# Altium footprint library DS1040-05RN.PcbLib: 1 footprints
Each footprint in its own frame and in the unit in brackets; x right, y up, seen from the top. Pads: shape width x height; smd on the part's side, far side on the other; paste and mask are expansions set on the pad; w line width, h text height; cw(c..) or ccw(c..) is an arc to the next point about the centre after c.
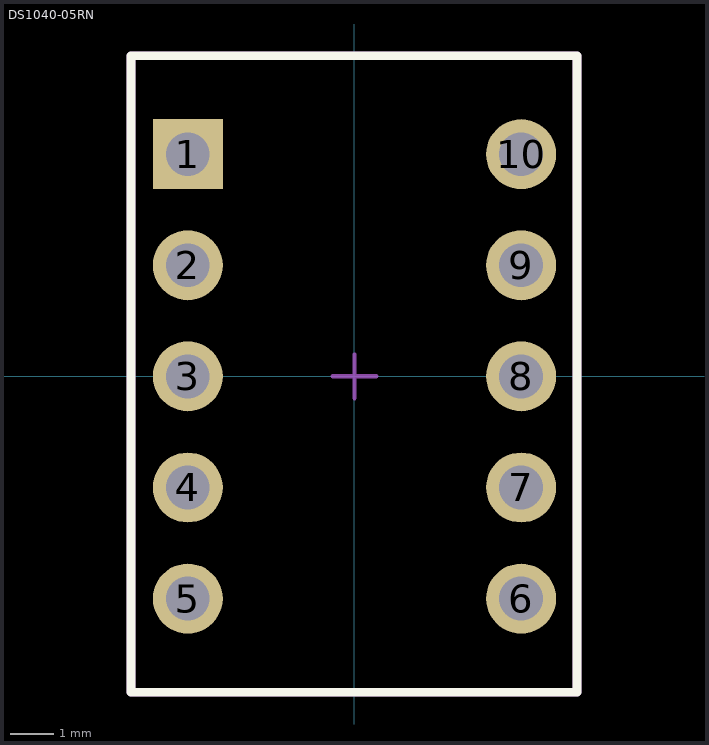
[diagram p0: the footprint, top view; thin cyan lines are the x and y axes]

## DS1040-05RN [mm]
pads (10):
  rect 1.6x1.6 hole 1: 1(-3.81,5.08)
  round 1.6 hole 1: 2(-3.81,2.54) 3(-3.81,0) 4(-3.81,-2.54) 5(-3.81,-5.08) 6(3.81,-5.08) 7(3.81,-2.54) 8(3.81,0) 9(3.81,2.54) 10(3.81,5.08)
Top Overlay:
  lines w0.2: -5.11,-7.22 5.09,-7.22 5.09,7.33 -5.11,7.33 -5.11,-7.22
  text "." at -5.649,4.931 h3
Top Courtyard:
  lines w0.2: -5.11,-7.22 5.09,-7.22 5.09,7.33 -5.11,7.33 -5.11,-7.22
Top Assembly:
  lines w0.2: -5.11,-7.22 5.09,-7.22 5.09,7.33 -5.11,7.33 -5.11,-7.22
  text ".Designator" at -0.873,3.08 h1.52
Mechanical 9:
  lines w0.1: -0.5,0 0.5,0 ; 0,-0.5 0,0.5
3D body "DS1040-05 (DIP_switch).step": height 6.8, standoff -3.85, extent -4.96,-7.02 4.94,7.14